# Altium footprint library PAL.PcbLib: 209 footprints (part 11 of 14)
Each footprint in its own frame and in the unit in brackets; x right, y up, seen from the top. Pads: shape width x height; smd on the part's side, far side on the other; paste and mask are expansions set on the pad; w line width, h text height; cw(c..) or ccw(c..) is an arc to the next point about the centre after c.
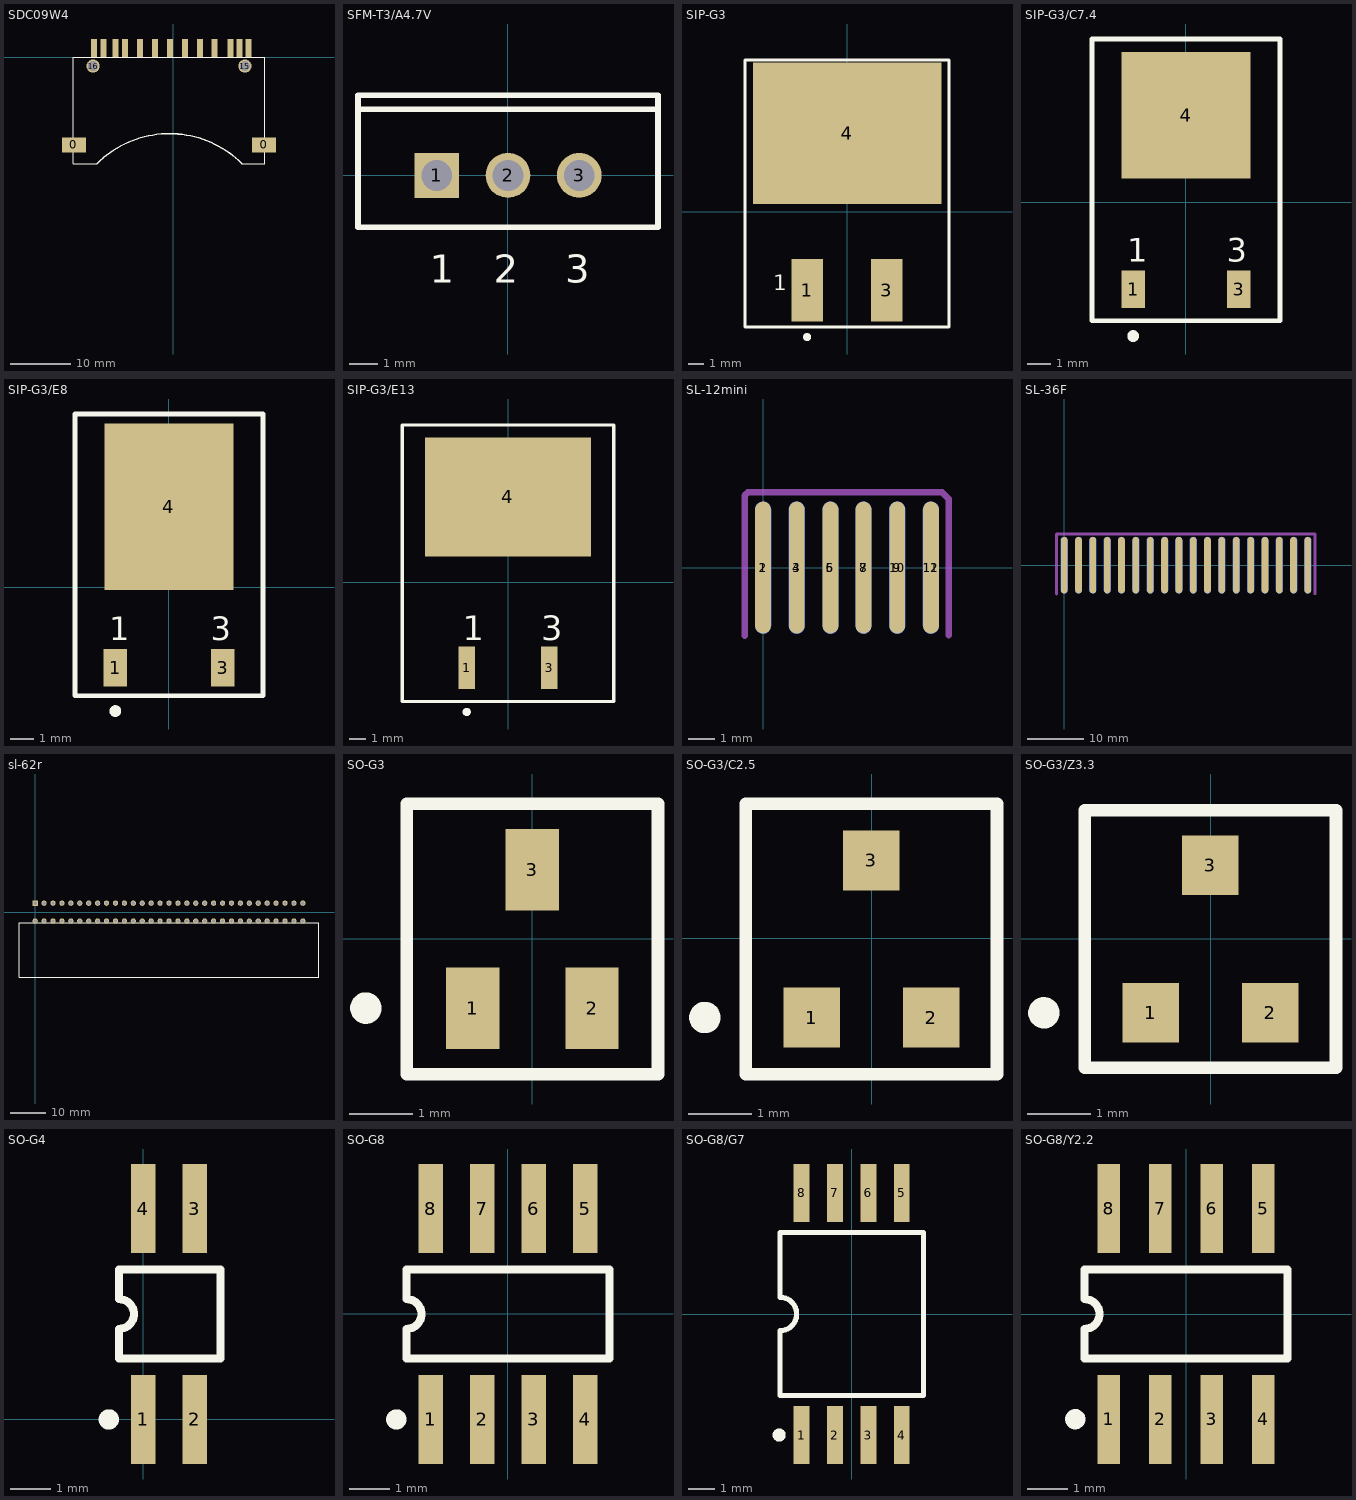
[diagram p10: the footprints below, top view; thin cyan lines are the x and y axes]

## SDC09W4 [mm]
pads (17):
  rect 4x2.5 smd: 0(-16.55,-14.63) 0(15.15,-14.63)
  rect 1x3 smd: 0(-13.15,1.5) 0(-11.6,1.5) 0(11.06,1.5) 0(12.5,1.5) 1(6.88,1.5) 2(4.5,1.5) 3(2,1.5) 4(-0.5,1.5) 5(-3,1.5) 6(-5.5,1.5) 7(-7.99,1.5) 8(-9.61,1.5) 9(9.51,1.5)
  round 2.2 hole 1.7: 15(11.95,-1.5) 16(-13.35,-1.5)
Top Overlay:
  lines w0.2: -16.6,-13.4 -16.6,-0.05 -16.55,0 15.225,0 15.25,-0.025 15.25,-17.825 ; -16.6,-13.325 -16.6,-17.725 -16.65,-17.775 -12.725,-17.775 -12.7,-17.75 ; 11.35,-17.775 15.225,-17.775
  lines w0.254: -12.7,-17.75 cw(c-0.625,-29.85) 11.475,-17.775

## SFM-T3/A4.7V [mm]
pads (3):
  rect 1.6x1.6 hole 1.1: 1(-2.538,0.002)
  round 1.6 hole 1.1: 2(0.002,0.002) 3(2.542,0.002)
Top Overlay:
  lines w0.2: -5.348,2.352 5.352,2.352 ; -5.348,-1.848 -5.348,2.852 5.352,2.852 5.352,-1.848 -5.348,-1.848
  text "3" at 2.042,-3.823 h1
  text "1" at -2.788,-3.823 h1
  text "2" at -0.498,-3.823 h1

## SIP-G3 [mm]
pads (3):
  rect 2x4 smd: 1(-2.563,-4.996) 3(2.517,-4.996)
  rect 12x9 smd: 4(-0.011,5.004)
Top Overlay:
  circle w0.25: c-2.563,-7.973 r0.125
  lines w0.2: -6.523,-7.323 -6.523,9.677 6.477,9.677 6.477,-7.323 -6.523,-7.323
  text "1" at -4.711,-4.996 h1

## SIP-G3/C7.4 [mm]
pads (3):
  rect 1x1.6 smd: 1(-2.243,-3.693) 3(2.257,-3.693)
  rect 5.5x5.4 smd: 4(0.007,3.707)
Top Overlay:
  circle w0.25: c-2.243,-5.693 r0.125
  lines w0.2: -3.993,-5.043 -3.993,6.957 4.007,6.957 4.007,-5.043 -3.993,-5.043
  text "1" at -2.493,-2.518 h1
  text "3" at 1.75,-2.518 h1

## SIP-G3/E8 [mm]
pads (3):
  rect 1x1.6 smd: 1(-2.285,-3.431) 3(2.285,-3.431)
  rect 5.5x7.1 smd: 4(0,3.419)
Top Overlay:
  circle w0.25: c-2.285,-5.281 r0.125
  lines w0.2: -4,-4.631 -4,7.369 4,7.369 4,-4.631 -4,-4.631
  text "3" at 1.788,-2.256 h1
  text "1" at -2.54,-2.256 h1

## SIP-G3/E13 [mm]
pads (3):
  rect 1x2.6 smd: 1(-2.551,-5.246) 3(2.529,-5.246)
  rect 10.2x7.3 smd: 4(-0.011,5.254)
Top Overlay:
  circle w0.25: c-2.551,-7.971 r0.125
  lines w0.2: -6.511,-7.321 6.489,-7.321 6.489,9.679 -6.511,9.679 -6.511,-7.321
  text "3" at 2.021,-3.571 h1.5
  text "1" at -2.801,-3.571 h1.5

## SL-12mini [mm]
pads (12):
  oval 0.6x5 smd: 1(0,0) 3(1.275,0) 5(2.55,0) 7(3.8,0) 9(5.075,0) 11(6.35,0)
  oval 0.6x5 smd far side: 2(0,0) 4(1.275,0) 6(2.55,0) 8(3.8,0) 10(5.075,0) 12(6.35,0)
Mechanical 1:
  lines w0.25: -0.7,-2.575 -0.7,2.7 -0.7,2.725 -0.575,2.85 6.775,2.85 6.925,2.7 7.025,2.6 7.025,-2.55

## SL-36F [mm]
pads (36):
  oval 1.2x10 smd: 1(0,0) 3(2.55,0) 5(5.075,0) 7(7.625,0) 9(10.15,0) 11(12.675,0) 13(15.25,0) 15(17.8,0) 17(20.325,0) 19(22.875,0) 21(25.4,0) 23(27.925,0) 25(30.5,0) 27(33.05,0) 29(35.575,0) 31(38.125,0) 33(40.65,0) 35(43.175,0)
  oval 1.2x10 smd far side: 2(0,0) 4(2.55,0) 6(5.075,0) 8(7.625,0) 10(10.15,0) 12(12.7,0) 14(15.25,0) 16(17.8,0) 18(20.325,0) 20(22.875,0) 22(25.4,0) 24(27.925,0) 26(30.5,0) 28(33.05,0) 30(35.575,0) 32(38.125,0) 34(40.675,0) 36(43.175,0)
Mechanical 1:
  lines w0.5: -1.375,-5.1 -1.375,5.525 44.45,5.525 44.475,5.5 44.475,-5.05

## sl-62r [mm]
pads (62):
  rect 1.5x1.5 hole 0.95: 1(0,2.56)
  round 1.5 hole 0.95: 2(0,-2.53) 3(2.54,2.56) 4(2.54,-2.53) 5(5.08,2.56) 6(5.08,-2.53) 7(7.62,2.56) 8(7.62,-2.53) 9(10.16,2.56) 10(10.16,-2.53) 11(12.7,2.56) 12(12.7,-2.53) 13(15.24,2.56) 14(15.24,-2.53) 15(17.78,2.56) 16(17.78,-2.53) 17(20.32,2.56) 18(20.32,-2.53) 19(22.86,2.56) 20(22.86,-2.53) 21(25.4,2.56) 22(25.4,-2.53) 23(27.94,2.56) 24(27.94,-2.53) 25(30.48,2.56) 26(30.48,-2.53) 27(33.02,2.56) 28(33.02,-2.53) 29(35.56,2.56) 30(35.56,-2.53) 31(38.1,2.56) 32(38.1,-2.53) 33(40.64,2.56) 34(40.64,-2.53) 35(43.18,2.56) 36(43.18,-2.53) 37(45.72,2.56) 38(45.72,-2.53) 39(48.26,2.56) 40(48.26,-2.53) 41(50.8,2.56) 42(50.8,-2.53) 43(53.35,2.55) 44(53.34,-2.53) 45(55.88,2.56) 46(55.88,-2.53) 47(58.42,2.56) 48(58.42,-2.53) 49(60.96,2.56) 50(60.96,-2.53) 51(63.5,2.56) 52(63.5,-2.53) 53(66.04,2.56) 54(66.04,-2.53) 55(68.58,2.56) 56(68.58,-2.53) 57(71.12,2.56) 58(71.12,-2.53) 59(73.66,2.56) 60(73.66,-2.53) 61(76.2,2.56) 62(76.2,-2.53)
Top Overlay:
  lines w0.25: -4.6,-18.6 80.8,-18.6 80.8,-2.95 -4.6,-2.95 -4.6,-18.6

## SO-G3 [mm]
pads (3):
  rect 0.85x1.3 smd: 1(-0.948,-1.102) 2(0.952,-1.102) 3(0.002,1.098)
Top Overlay:
  circle w0.25: c-2.648,-1.102 r0.125
  lines w0.2: -1.998,-2.152 -1.998,2.148 2.002,2.148 2.002,-2.152 -1.998,-2.152

## SO-G3/C2.5 [mm]
pads (3):
  rect 0.9x0.95 smd: 1(-0.958,-1.261) 2(0.942,-1.261) 3(-0.008,1.239)
Top Overlay:
  circle w0.25: c-2.658,-1.261 r0.125
  lines w0.2: -2.008,-2.161 1.992,-2.161 1.992,2.139 -2.008,2.139 -2.008,-2.161

## SO-G3/Z3.3 [mm]
pads (3):
  rect 0.9x0.95 smd: 1(-0.954,-1.179) 2(0.946,-1.179) 3(-0.004,1.171)
Top Overlay:
  circle w0.25: c-2.654,-1.179 r0.125
  lines w0.2: -2.004,-2.054 1.996,-2.054 1.996,2.046 -2.004,2.046 -2.004,-2.054

## SO-G4 [mm]
pads (4):
  rect 0.6x2.2 smd: 1(0.003,0) 2(1.273,0) 3(1.273,5.2) 4(0.003,5.2)
Top Overlay:
  circle w0.25: c-0.847,0 r0.125
  lines w0.2: -0.592,1.5 1.908,1.5 1.908,3.7 -0.592,3.7 -0.592,2.966 cw(c-0.592,2.6) -0.592,2.233 -0.592,1.5

## SO-G8 [mm]
pads (8):
  rect 0.6x2.2 smd: 1(-1.902,-2.611) 2(-0.632,-2.611) 3(0.638,-2.611) 4(1.908,-2.611) 5(1.908,2.589) 6(0.638,2.589) 7(-0.632,2.589) 8(-1.902,2.589)
Top Overlay:
  circle w0.25: c-2.752,-2.611 r0.125
  lines w0.2: -2.497,-1.111 -2.497,-0.377 ccw(c-2.497,-0.011) -2.497,0.356 -2.497,1.089 2.503,1.089 2.503,-1.111 -2.497,-1.111

## SO-G8/G7 [mm]
pads (8):
  rect 0.6x2.2 smd: 1(-1.905,-4.6) 2(-0.635,-4.6) 3(0.635,-4.6) 4(1.905,-4.6) 5(1.905,4.6) 6(0.635,4.6) 7(-0.635,4.6) 8(-1.905,4.6)
Top Overlay:
  circle w0.25: c-2.755,-4.6 r0.125
  lines w0.2: -2.725,-3.1 -2.725,-0.635 ccw(c-2.725,0) -2.725,0.635 -2.725,3.1 2.725,3.1 2.725,-3.1 -2.725,-3.1

## SO-G8/Y2.2 [mm]
pads (8):
  rect 0.55x2.2 smd: 1(-1.91,-2.588) 2(-0.64,-2.588) 3(0.63,-2.588) 4(1.9,-2.588) 5(1.9,2.612) 6(0.63,2.612) 7(-0.64,2.612) 8(-1.91,2.612)
Top Overlay:
  circle w0.25: c-2.735,-2.583 r0.125
  lines w0.2: -2.505,-1.088 -2.505,-0.355 ccw(c-2.505,0.012) -2.505,0.379 -2.505,1.112 2.495,1.112 2.495,-1.088 -2.505,-1.088